# Altium schematic symbol library Schlib1.SchLib: 4 symbols
Pins are listed as number, name and electrical type; pins without a type are passive.

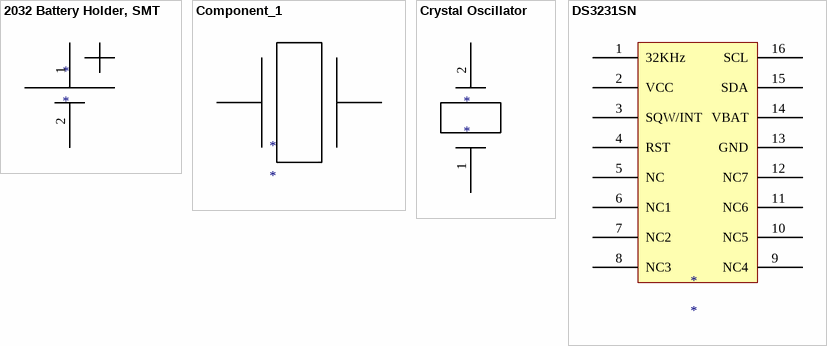
[diagram p0: symbols 2032 Battery Holder, SMT to DS3231SN]

## 2032 Battery Holder, SMT
designator *
footprint PCBComponent_1
pins: 1, 2

## Component_1
designator *
footprint Crystal Oscillator
pins: 0, 1

## Crystal Oscillator
designator *
footprint Crystal Oscillator
pins: 1, 2

## DS3231SN
designator *
pins: 1 32KHz, 2 VCC, 3 SQW/INT, 4 RST, 5 NC, 6 NC1, 7 NC2, 8 NC3, 9 NC4, 10 NC5, 11 NC6, 12 NC7, 13 GND, 14 VBAT, 15 SDA, 16 SCL